# Altium schematic symbol library hand_ad_lib.SchLib: 101 symbols (part 1 of 2)
Pins are listed as number, name and electrical type; pins without a type are passive.

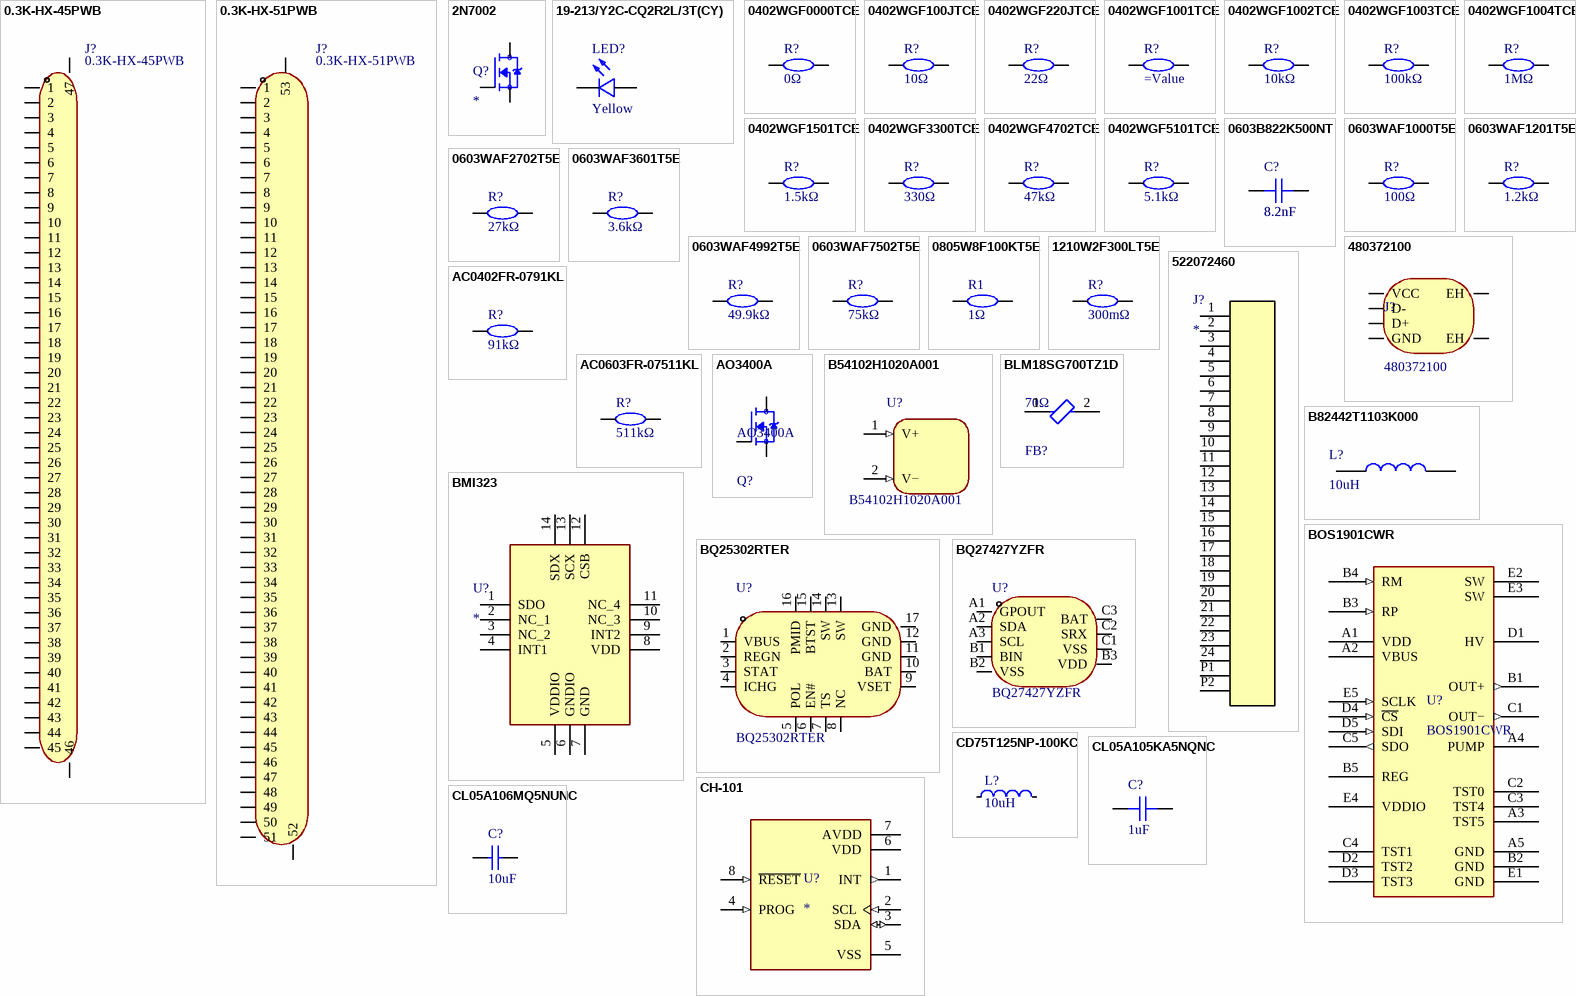
[diagram p0: symbols 0.3K-HX-45PWB to CL05A106MQ5NUNC]

## 0.3K-HX-45PWB
designator J?
FPC Connector, 45P, 0.3mm, Right Angle, TOP Connection; Manufacturer: HDGC(华德共创); Add into BOM: yes; Locking Feature: 翻盖式; FFC, FCB Thickness: 0.2mm; Symbol: 0.3K-HX-45PWB; Device: 0.3K-HX-45PWB; LCSC Part Name: 间距:0.3mm P数:45P 翻盖式 上接; Supplier Part: C2919534; Manufacturer Part: 0.3K-HX-45PWB; Supplier Footprint: SMD,P=0.3mm,卧贴; JLCPCB Part Class: 扩展库; Datasheet: https://atta.szlcsc.com/upload/public/pdf/source/20211115/5A3AC448CFC4AFE5F6E30419C274B007.pdf; Supplier: LCSC; Convert to PCB: yes; Contact Type: 上接; Number of Contacts: 45P; Pitch: 0.3mm; Mounting Type: 卧贴; Height Above Board: 1mm; Operating Temperature Range: -55℃~+85℃; Name: 0.3K-HX-45PWB
footprint FPC-SMD_45P-P0.30_HDGC_.3K-HX-45PWB
pins: 1, 2, 3, 4, 5, 6, 7, 8, 9, 10, 11, 12, 13, 14, 15, 16, 17, 18, 19, 20, 21, 22, 23, 24, 25, 26, 27, 28, 29, 30, 31, 32, 33, 34, 35, 36, 37, 38, 39, 40, 41, 42, 43, 44, 45, 46, 47

## 0.3K-HX-51PWB
designator J?
FPC Connector, 51P, 0.3mm, Right Angle, TOP Connection; Manufacturer: HDGC(华德共创); Add into BOM: yes; Locking Feature: 翻盖式; FFC, FCB Thickness: 0.2mm; Symbol: 0.3K-HX-51PWB; Device: 0.3K-HX-51PWB; Supplier: LCSC; Supplier Part: C2919535; Manufacturer Part: 0.3K-HX-51PWB; JLCPCB Part Class: 扩展库; LCSC Part Name: 间距:0.3mm P数:51P 翻盖式 上接; Supplier Footprint: SMD,P=0.3mm,卧贴; Datasheet: https://atta.szlcsc.com/upload/public/pdf/source/20211115/5A3AC448CFC4AFE5F6E30419C274B007.pdf; Convert to PCB: yes; Contact Type: 上接; Number of Contacts: 51P; Pitch: 0.3mm; Mounting Type: 卧贴; Height Above Board: 1mm; Operating Temperature Range: -55℃~+85℃; Name: 0.3K-HX-51PWB
footprint FPC-SMD_51P-P0.30_HDGC_0.3K-HX-51PWB
pins: 1, 2, 3, 4, 5, 6, 7, 8, 9, 10, 11, 12, 13, 14, 15, 16, 17, 18, 19, 20, 21, 22, 23, 24, 25, 26, 27, 28, 29, 30, 31, 32, 33, 34, 35, 36, 37, 38, 39, 40, 41, 42, 43, 44, 45, 46, 47, 48, 49, 50, 51, 52, 53

## 2N7002
designator Q?
MOSFET N-CH 60V 280mA (Ta) 350mW (Ta) Surface Mount SOT-23-3 (TO-236); MP: altium_native_batch; Package: None; Price: None; Availability: Unavailable; Value: *
footprint SOT95P240X111-3N
pins: 1 G, 2 S, 3 D

## 19-213/Y2C-CQ2R2L/3T(CY)
designator LED?  Name: Yellow  (hidden comment: 19-213/Y2C-CQ2R2L/3T(CY))
LED, Yellow 0603; Manufacturer: EVERLIGHT(亿光); Add into BOM: yes; Emitted Color: 黄灯; Lens Color: 无色透明; Dominant Wavelength: 585.5nm~591.5nm; Peak Wavelength: 591nm; Forward Current: 20mA; Power Dissipation: 60mW; Viewing Angle: 120°; Symbol: 19-213/Y2C-CQ2R2L/3T(CY); Manufacturer Part: 19-213/Y2C-CQ2R2L/3T(CY); Supplier Footprint: 0603; JLCPCB Part Class: 基础库; Datasheet: https://atta.szlcsc.com/upload/public/pdf/source/20160507/1462613613586.pdf; Supplier: LCSC; Convert to PCB: yes; Diode Configuration: -; Color Temperature: -; Mounting Sytle: -; Operating Temperature: -40℃~+85℃; Supplier Part: C72038; Device: 19-213/Y2C-CQ2R2L/3T(CY); LCSC Part Name: 黄灯; Value: *; Info: Yellow
footprint LED0603-RD-YELLOW
pins: 1 C, 2 A

## 0402WGF0000TCE
designator R?, comment 0Ω
Resistor, Res Thick Film 0402 0 Ohm 1% 0.063W(1/16W) ±800ppm/°C Pad SMD T/R; Manufacturer: UNI-ROYAL(厚声); Symbol: 0402WGF0000TCE; Add into BOM: yes; Power(Watts): 62.5mW; Overload Voltage (Max): 50V; Temperature Coefficient: ±800ppm/℃; Device: 0402WGF0000TCE; Supplier: LCSC; Manufacturer Part: 0402WGF0000TCE; Supplier Part: C17168; Value: 0Ω; JLCPCB Part Class: 基础库; LCSC Part Name: 0Ω ±1% 62.5mW 厚膜电阻; Supplier Footprint: 0402; Datasheet: https://atta.szlcsc.com/upload/public/pdf/source/20200306/C422600_1E6D84923E4A46A82E41ADD87F860B5C.pdf; Convert to PCB: yes; Type: 厚膜电阻; Tolerance: ±1%; Operating Temperature Range: -55℃~+155℃; Name: 0Ω
footprint R0402
pins: 1, 2

## 0402WGF100JTCE
designator R?, comment 10Ω
Resistor, Res Thick Film 0402 10 Ohm 1% 0.063W(1/16W) ±200ppm/°C Pad SMD T/R; Manufacturer: UNI-ROYAL(厚声); Symbol: 0402WGF100JTCE; Add into BOM: yes; Power(Watts): 62.5mW; Overload Voltage (Max): 50V; Temperature Coefficient: ±200ppm/℃; Device: 0402WGF100JTCE; Supplier: LCSC; Manufacturer Part: 0402WGF100JTCE; Supplier Part: C25077; Value: 10Ω; JLCPCB Part Class: 基础库; LCSC Part Name: 10Ω ±1% 62.5mW 厚膜电阻; Supplier Footprint: 0402; Datasheet: https://atta.szlcsc.com/upload/public/pdf/source/20200306/C422600_1E6D84923E4A46A82E41ADD87F860B5C.pdf; Convert to PCB: yes; Type: 厚膜电阻; Tolerance: ±1%; Operating Temperature Range: -55℃~+155℃; Name: 10Ω
footprint R0402
pins: 1, 2

## 0402WGF220JTCE
designator R?, comment 22Ω
Resistor, Res Thick Film 0402 22 Ohm 1% 0.063W(1/16W) ±200ppm/°C Pad SMD T/R; Manufacturer: UNI-ROYAL(厚声); Symbol: 0402WGF220JTCE; Add into BOM: yes; Power(Watts): 62.5mW; Overload Voltage (Max): 50V; Temperature Coefficient: ±100ppm/℃; Device: 0402WGF220JTCE; Supplier: LCSC; Manufacturer Part: 0402WGF220JTCE; Supplier Part: C25092; Value: 22Ω; JLCPCB Part Class: Basic Part; LCSC Part Name: 22Ω ±1% 62.5mW 厚膜电阻; Supplier Footprint: 0402; Datasheet: https://atta.szlcsc.com/upload/public/pdf/source/20200306/C422600_1E6D84923E4A46A82E41ADD87F860B5C.pdf; Convert to PCB: yes; Type: 厚膜电阻; Tolerance: ±1%; Operating Temperature Range: -55℃~+155℃; Name: 22Ω
footprint R0402
pins: 1, 2

## 0402WGF1001TCE
designator R?
Resistor, Res Thick Film 0402 1K Ohm 1% 0.063W(1/16W) ±100ppm/°C Pad SMD T/R; Manufacturer: UNI-ROYAL(厚声); Symbol: 0402WGF1001TCE; Add into BOM: yes; Power(Watts): 62.5mW; Overload Voltage (Max): 50V; Temperature Coefficient: ±100ppm/℃; Value: 1kΩ; Device: 0402WGF1001TCE; Supplier: LCSC; Manufacturer Part: 0402WGF1001TCE; Supplier Part: C11702; JLCPCB Part Class: 基础库; LCSC Part Name: 1kΩ ±1% 62.5mW 厚膜电阻; Supplier Footprint: 0402; Datasheet: https://atta.szlcsc.com/upload/public/pdf/source/20200306/C422600_1E6D84923E4A46A82E41ADD87F860B5C.pdf; Convert to PCB: yes; Type: 厚膜电阻; Tolerance: ±1%; Operating Temperature Range: -55℃~+155℃; Resistance: 1kΩ; Name: =Value
footprint R0402
pins: 1, 2

## 0402WGF1002TCE
designator R?, comment 10kΩ
Resistor, Res Thick Film 0402 10K Ohm 1% 0.063W(1/16W) ±100ppm/°C Pad SMD T/R; Manufacturer: UNI-ROYAL(厚声); Symbol: 0402WGF1002TCE; Add into BOM: yes; Power(Watts): 62.5mW; Overload Voltage (Max): 50V; Temperature Coefficient: ±100ppm/℃; Device: 0402WGF1002TCE; Supplier: LCSC; Manufacturer Part: 0402WGF1002TCE; Supplier Part: C25744; Value: 10kΩ; JLCPCB Part Class: 基础库; LCSC Part Name: 10kΩ ±1% 62.5mW 厚膜电阻; Supplier Footprint: 0402; Datasheet: https://atta.szlcsc.com/upload/public/pdf/source/20200306/C422600_1E6D84923E4A46A82E41ADD87F860B5C.pdf; Convert to PCB: yes; Type: 厚膜电阻; Tolerance: ±1%; Operating Temperature Range: -55℃~+155℃; Name: 10kΩ
footprint R0402
pins: 1, 2

## 0402WGF1003TCE
designator R?, comment 100kΩ
Resistor, Res Thick Film 0402 100K Ohm 1% 0.063W(1/16W) ±100ppm/°C Pad SMD T/R; Manufacturer: UNI-ROYAL(厚声); Symbol: 0402WGF1003TCE; Add into BOM: yes; Power(Watts): 62.5mW; Overload Voltage (Max): 50V; Temperature Coefficient: ±100ppm/℃; Device: 0402WGF1003TCE; Supplier: LCSC; Manufacturer Part: 0402WGF1003TCE; Supplier Part: C25741; Value: 100kΩ; JLCPCB Part Class: Basic Part; LCSC Part Name: 100kΩ ±1% 62.5mW 厚膜电阻; Supplier Footprint: 0402; Datasheet: https://atta.szlcsc.com/upload/public/pdf/source/20200306/C422600_1E6D84923E4A46A82E41ADD87F860B5C.pdf; Convert to PCB: yes; Type: 厚膜电阻; Tolerance: ±1%; Operating Temperature Range: -55℃~+155℃; Name: 100kΩ
footprint R0402
pins: 1, 2

## 0402WGF1004TCE
designator R?, comment 1MΩ
Resistor, Res Thick Film 0402 1M Ohm 1% 0.063W(1/16W) ±100ppm/°C Pad SMD T/R; Manufacturer: UNI-ROYAL(厚声); Symbol: 0402WGF1004TCE; Add into BOM: yes; Power(Watts): 62.5mW; Overload Voltage (Max): 50V; Temperature Coefficient: ±100ppm/℃; Device: 0402WGF1004TCE; Supplier: LCSC; Manufacturer Part: 0402WGF1004TCE; Supplier Part: C26083; Value: 1MΩ; JLCPCB Part Class: 基础库; LCSC Part Name: 1MΩ ±1% 62.5mW 厚膜电阻; Supplier Footprint: 0402; Datasheet: https://atta.szlcsc.com/upload/public/pdf/source/20200306/C422600_1E6D84923E4A46A82E41ADD87F860B5C.pdf; Convert to PCB: yes; Type: Res Thick Film; Tolerance: ±1%; Operating Temperature Range: -55℃~+155℃; Name: 1MΩ
footprint R0402
pins: 1, 2

## 0402WGF1501TCE
designator R?, comment 1.5kΩ
Resistor, Res Thick Film 0402 1.5K Ohm 1% 0.063W(1/16W) ±100ppm/°C Pad SMD T/R; Manufacturer: UNI-ROYAL(厚声); Symbol: 0402WGF1501TCE; Add into BOM: yes; Power(Watts): 62.5mW; Overload Voltage (Max): 50V; Temperature Coefficient: ±100ppm/℃; Device: 0402WGF1501TCE; Supplier: LCSC; Manufacturer Part: 0402WGF1501TCE; Supplier Part: C25867; Value: 1.5kΩ; JLCPCB Part Class: 基础库; LCSC Part Name: 1.5kΩ ±1% 62.5mW 厚膜电阻; Supplier Footprint: 0402; Datasheet: https://atta.szlcsc.com/upload/public/pdf/source/20200306/C422600_1E6D84923E4A46A82E41ADD87F860B5C.pdf; Convert to PCB: yes; Type: 厚膜电阻; Tolerance: ±1%; Operating Temperature Range: -55℃~+155℃; Name: 1.5kΩ
footprint R0402
pins: 1, 2

## 0402WGF3300TCE
designator R?, comment 330Ω
Resistor, Res Thick Film 0402 330 Ohm 1% 0.063W(1/16W) ±100ppm/°C Pad SMD T/R; Manufacturer: UNI-ROYAL(厚声); Symbol: 0402WGF3300TCE; Add into BOM: yes; Power(Watts): 62.5mW; Overload Voltage (Max): 50V; Temperature Coefficient: ±100ppm/℃; Device: 0402WGF3300TCE; Supplier: LCSC; Manufacturer Part: 0402WGF3300TCE; Supplier Part: C25104; Value: 330Ω; JLCPCB Part Class: Basic Part; LCSC Part Name: 330Ω ±1% 62.5mW 厚膜电阻; Supplier Footprint: 0402; Datasheet: https://atta.szlcsc.com/upload/public/pdf/source/20200306/C422600_1E6D84923E4A46A82E41ADD87F860B5C.pdf; Convert to PCB: yes; Type: 厚膜电阻; Tolerance: ±1%; Operating Temperature Range: -55℃~+155℃; Name: 330Ω
footprint R0402
pins: 1, 2

## 0402WGF4702TCE
designator R?, comment 47kΩ
Resistor, Res Thick Film 0402 47K Ohm 1% 0.063W(1/16W) ±100ppm/°C Pad SMD T/R; Manufacturer: UNI-ROYAL(厚声); Symbol: 0402WGF4702TCE; Add into BOM: yes; Power(Watts): 62.5mW; Overload Voltage (Max): 50V; Temperature Coefficient: ±100ppm/℃; Device: 0402WGF4702TCE; Supplier: LCSC; Manufacturer Part: 0402WGF4702TCE; Supplier Part: C25792; Value: 47kΩ; JLCPCB Part Class: 基础库; LCSC Part Name: 47kΩ ±1% 62.5mW 厚膜电阻; Supplier Footprint: 0402; Datasheet: https://atta.szlcsc.com/upload/public/pdf/source/20200306/C422600_1E6D84923E4A46A82E41ADD87F860B5C.pdf; Convert to PCB: yes; Type: 厚膜电阻; Tolerance: ±1%; Operating Temperature Range: -55℃~+155℃; Name: 47kΩ
footprint R0402
pins: 1, 2

## 0402WGF5101TCE
designator R?, comment 5.1kΩ
Resistor, Res Thick Film 0402 5k1 Ohm 1% 0.063W(1/16W) ±100ppm/°C Pad SMD T/R; Manufacturer: UNI-ROYAL(厚声); Symbol: 0402WGF5101TCE; Add into BOM: yes; Power(Watts): 62.5mW; Overload Voltage (Max): 50V; Temperature Coefficient: ±100ppm/℃; Device: 0402WGF5101TCE; Supplier: LCSC; Manufacturer Part: 0402WGF5101TCE; Supplier Part: C25905; Value: 5.1kΩ; JLCPCB Part Class: Basic Part; LCSC Part Name: 5.1kΩ ±1% 62.5mW 厚膜电阻; Supplier Footprint: 0402; Datasheet: https://atta.szlcsc.com/upload/public/pdf/source/20200306/C422600_1E6D84923E4A46A82E41ADD87F860B5C.pdf; Convert to PCB: yes; Tolerance: ±1%; Type: 厚膜电阻; Operating Temperature Range: -55℃~+155℃; Name: 5.1kΩ
footprint R0402
pins: 1, 2

## 0603B822K500NT
designator C?, comment 8.2nF
MLCC, 8.2 nF, 50 V, ± 10%, X7R, 0603; Manufacturer: FH(风华); Symbol: 0603B822K500NT; Add into BOM: yes; Voltage Rated: 50V; Device: 0603B822K500NT; LCSC Part Name: 8.2nF ±10% 50V; Supplier Part: C1322360; Manufacturer Part: 0603B822K500NT; Supplier Footprint: 0603; JLCPCB Part Class: 基础库; Datasheet: https://atta.szlcsc.com/upload/public/pdf/source/20200305/C486355_26A10D38EF8C2A5C37091D0039909270.pdf; Supplier: LCSC; Convert to PCB: yes; Value: 8.2nF; Tolerance: ±10%; Temperature Coefficient: X7R; Name: 8.2nF
footprint C0603
pins: 1, 2

## 0603WAF1000T5E
designator R?, comment 100Ω
Resistor, Res Thick Film 0603 100 Ohm 1% 0.1W(1/10W) ±200ppm/°C Pad SMD T/R; Manufacturer: UNI-ROYAL(厚声); Symbol: 0603WAF1000T5E; Add into BOM: yes; Power(Watts): 100mW; Overload Voltage (Max): 75V; Temperature Coefficient: ±200ppm/℃; Device: 0603WAF1000T5E; LCSC Part Name: 100Ω ±1% 100mW 厚膜电阻; Supplier Part: C22775; Manufacturer Part: 0603WAF1000T5E; Supplier Footprint: 0603; JLCPCB Part Class: 基础库; Datasheet: https://atta.szlcsc.com/upload/public/pdf/source/20200306/C422600_1E6D84923E4A46A82E41ADD87F860B5C.pdf; Supplier: LCSC; Convert to PCB: yes; Type: 厚膜电阻; Value: 100Ω; Tolerance: ±1%; Operating Temperature Range: -55℃~+155℃; Name: 100Ω
footprint R0603
pins: 1, 2

## 0603WAF1201T5E
designator R?, comment 1.2kΩ
Resistor, Res Thick Film 0603 1.2K Ohm 1% 0.1W ±100ppm/°C Pad SMD T/R; Manufacturer: UNI-ROYAL(厚声); Symbol: 0603WAF1201T5E; Add into BOM: yes; Power(Watts): 100mW; Overload Voltage (Max): 75V; Temperature Coefficient: ±100ppm/℃; Device: 0603WAF1201T5E; Supplier: LCSC; Manufacturer Part: 0603WAF1201T5E; Supplier Part: C22765; Value: 1.2kΩ; JLCPCB Part Class: 基础库; LCSC Part Name: 1.2kΩ ±1% 100mW 厚膜电阻; Supplier Footprint: 0603; Datasheet: https://atta.szlcsc.com/upload/public/pdf/source/20200306/C422600_1E6D84923E4A46A82E41ADD87F860B5C.pdf; Convert to PCB: yes; Type: 厚膜电阻; Tolerance: ±1%; Operating Temperature Range: -55℃~+155℃; Name: 1.2kΩ
footprint R0603
pins: 1, 2

## 0603WAF2702T5E
designator R?, comment 27kΩ
Resistor, Res Thick Film 0603 27K Ohm 1% 0.1W ±100ppm/°C Pad SMD T/R; Manufacturer: UNI-ROYAL(厚声); Symbol: 0603WAF2702T5E; Add into BOM: yes; Power(Watts): 100mW; Overload Voltage (Max): 75V; Temperature Coefficient: ±100ppm/℃; Device: 0603WAF2702T5E; Supplier: LCSC; Manufacturer Part: 0603WAF2702T5E; Supplier Part: C22967; Value: 27kΩ; JLCPCB Part Class: 基础库; LCSC Part Name: 27kΩ ±1% 100mW 厚膜电阻; Supplier Footprint: 0603; Datasheet: https://atta.szlcsc.com/upload/public/pdf/source/20200306/C422600_1E6D84923E4A46A82E41ADD87F860B5C.pdf; Convert to PCB: yes; Type: 厚膜电阻; Tolerance: ±1%; Operating Temperature Range: -55℃~+155℃; Name: 27kΩ
footprint R0603
pins: 1, 2

## 0603WAF3601T5E
designator R?, comment 3.6kΩ
Resistor, Res Thick Film 0603 3.6K Ohm 1% 0.1W ±100ppm/°C Pad SMD T/R; Manufacturer: UNI-ROYAL(厚声); Symbol: 0603WAF3601T5E; Add into BOM: yes; Power(Watts): 100mW; Overload Voltage (Max): 75V; Temperature Coefficient: ±100ppm/℃; Device: 0603WAF3601T5E; Supplier: LCSC; Manufacturer Part: 0603WAF3601T5E; Supplier Part: C22980; Value: 3.6kΩ; JLCPCB Part Class: Basic Part; LCSC Part Name: 3.6kΩ ±1% 100mW 厚膜电阻; Supplier Footprint: 0603; Datasheet: https://atta.szlcsc.com/upload/public/pdf/source/20200306/C422600_1E6D84923E4A46A82E41ADD87F860B5C.pdf; Convert to PCB: yes; Type: 厚膜电阻; Tolerance: ±1%; Operating Temperature Range: -55℃~+155℃; Name: 3.6kΩ
footprint R0603
pins: 1, 2

## 0603WAF4992T5E
designator R?, comment 49.9kΩ
Resistor, Res Thick Film 0603 49.9k Ohm 1% 0.1W(1/10W) ±100ppm/°C Pad SMD T/R; Manufacturer: UNI-ROYAL(厚声); Symbol: 0603WAF4992T5E; Add into BOM: yes; Power(Watts): 100mW; Overload Voltage (Max): 75V; Temperature Coefficient: ±100ppm/℃; Device: 0603WAF4992T5E; Supplier: LCSC; Manufacturer Part: 0603WAF4992T5E; Supplier Part: C23184; Value: 49.9kΩ; JLCPCB Part Class: Basic Part; LCSC Part Name: 49.9kΩ ±1% 100mW 厚膜电阻; Supplier Footprint: 0603; Datasheet: https://atta.szlcsc.com/upload/public/pdf/source/20200306/C422600_1E6D84923E4A46A82E41ADD87F860B5C.pdf; Convert to PCB: yes; Type: 厚膜电阻; Tolerance: ±1%; Operating Temperature Range: -55℃~+155℃; Name: 49.9kΩ
footprint R0603
pins: 1, 2

## 0603WAF7502T5E
designator R?, comment 75kΩ
Resistor, Res Thick Film 0603 75k Ohm 1% 0.1W(1/10W) ±100ppm/°C Pad SMD T/R; Manufacturer: UNI-ROYAL(厚声); Symbol: 0603WAF7502T5E; Add into BOM: yes; Power(Watts): 100mW; Overload Voltage (Max): 75V; Temperature Coefficient: ±100ppm/℃; Device: 0603WAF7502T5E; Supplier: LCSC; Manufacturer Part: 0603WAF7502T5E; Supplier Part: C23242; Value: 75kΩ; JLCPCB Part Class: Basic Part; LCSC Part Name: 75kΩ ±1% 100mW 厚膜电阻; Supplier Footprint: 0603; Datasheet: https://atta.szlcsc.com/upload/public/pdf/source/20200306/C422600_1E6D84923E4A46A82E41ADD87F860B5C.pdf; Convert to PCB: yes; Type: 厚膜电阻; Tolerance: ±1%; Operating Temperature Range: -55℃~+155℃; Name: 75kΩ
footprint R0603
pins: 1, 2

## 0805W8F100KT5E
designator R1, comment 1Ω
Resistor, Thick Film 0805 1 Ohm 1% 0.125W(1/8W) ±400ppm/°C Pad SMD T/R, working temperature range -55°C ~ +155°C, maximum operating voltage 150V.; Manufacturer: UNI-ROYAL(厚声); Symbol: 0805W8F100KT5E; Add into BOM: yes; Power(Watts): 125mW; Overload Voltage (Max): 150V; Temperature Coefficient: ±400ppm/℃; Device: 0805W8F100KT5E; Supplier: LCSC; Manufacturer Part: 0805W8F100KT5E; Supplier Part: C25271; Value: 1Ω; JLCPCB Part Class: 基础库; LCSC Part Name: 1Ω ±1% 125mW 厚膜电阻; Supplier Footprint: 0805; Datasheet: https://atta.szlcsc.com/upload/public/pdf/source/20200306/C422600_1E6D84923E4A46A82E41ADD87F860B5C.pdf; Convert to PCB: yes; Type: 厚膜电阻; Tolerance: ±1%; Operating Temperature Range: -55℃~+155℃; Name: 1Ω
footprint R0805
pins: 1, 2

## 1210W2F300LT5E
designator R?, comment 300mΩ
Thermal dissipation resistor, 0.5 W, 300 mOhm, 1210; Manufacturer: UNI-ROYAL(厚声); Symbol: 1210W2F300LT5E; Add into BOM: yes; Tolerance: ±1%; Power(Watts): 500mW; Overload Voltage (Max): 200V; Device: 1210W2F300LT5E; Supplier: LCSC; Supplier Part: C620647; Manufacturer Part: 1210W2F300LT5E; Value: 300mΩ; JLCPCB Part Class: 扩展库; LCSC Part Name: 300mΩ ±1% 500mW 厚膜电阻; Supplier Footprint: 1210; Datasheet: https://atta.szlcsc.com/upload/public/pdf/source/20200306/C422600_1E6D84923E4A46A82E41ADD87F860B5C.pdf; Convert to PCB: yes; Type: 厚膜电阻; Operating Temperature Range: -55℃~+155℃; Name: 300mΩ
footprint R1210
pins: 1, 2

## 480372100
designator J?
USB Connector, 4 Contact(s), Male, Right Angle, Surface Mount Terminal, Locking, Receptacle; Manufacturer: MOLEX; Symbol: 48037-2100; Add into BOM: yes; Connector Type: Type-A; Gender: 公; Number of Ports: 1; Number of Contacts: 4P; Device: 480372100; LCSC Part Name: Type-A 公; Supplier Part: C136453; Manufacturer Part: 480372100; Supplier Footprint: SMD; JLCPCB Part Class: 扩展库; Datasheet: https://atta.szlcsc.com/upload/public/pdf/source/20171113/C136453_15105610937411115478.pdf; Supplier: LCSC; Convert to PCB: yes; Standard: USB 2.0; Name: 480372100
footprint USB-A-TH_480372100
pins: 1 VCC, 2 D-, 3 D+, 4 GND, 5 EH, 6 EH

## 522072460
designator J?
FFC 1mm 24P; Mfr_Name: Molex Connector Corporation; RefDes: RefDes; Type: Type
footprint CON_522072460_MOL
pins: 1, 2, 3, 4, 5, 6, 7, 8, 9, 10, 11, 12, 13, 14, 15, 16, 17, 18, 19, 20, 21, 22, 23, 24, P1, P2

## AC0402FR-0791KL
designator R?, comment 91kΩ
SMD Chip Resistor, 91 kOhm, ± 1%, 63 mW, 0402 [1005 Metric], Thick Film, General Purpose; Manufacturer: YAGEO(国巨); Symbol: AC0402FR-0791KL; Add into BOM: yes; Power(Watts): 62.5mW; Overload Voltage (Max): 50V; Temperature Coefficient: ±100ppm/℃; Device: AC0402FR-0791KL; LCSC Part Name: 厚膜电阻 91kΩ ±1% 62.5mW; Supplier Part: C144733; Manufacturer Part: AC0402FR-0791KL; Supplier Footprint: 0402; JLCPCB Part Class: Extended Part; Datasheet: https://atta.szlcsc.com/upload/public/pdf/source/20180927/C229861_4ABDC471507C1ED6AFB4BA66AFC8620A.pdf; Supplier: LCSC; Convert to PCB: yes; Type: 厚膜电阻; Value: 91kΩ; Tolerance: ±1%; Operating Temperature Range: -55℃~+155℃; Name: 91kΩ
footprint R0402
pins: 1, 2

## AC0603FR-07511KL
designator R?, comment 511kΩ
SMD Chip Resistor, 511 kOhm, ± 1%, 100 mW, 0603 [1608 Metric], Thick Film, General Purpose; Manufacturer: YAGEO(国巨); Symbol: AC0603FR-07511KL; Add into BOM: yes; Power(Watts): 100mW; Overload Voltage (Max): 75V; Temperature Coefficient: ±100ppm/℃; Device: AC0603FR-07511KL; LCSC Part Name: 厚膜电阻 511kΩ ±1% 100mW; Supplier Part: C227946; Manufacturer Part: AC0603FR-07511KL; Supplier Footprint: 0603; JLCPCB Part Class: Extended Part; Datasheet: https://atta.szlcsc.com/upload/public/pdf/source/20180927/C229861_4ABDC471507C1ED6AFB4BA66AFC8620A.pdf; Supplier: LCSC; Convert to PCB: yes; Type: 厚膜电阻; Value: 511kΩ; Tolerance: ±1%; Operating Temperature Range: -55℃~+155℃; Name: 511kΩ
footprint R0603
pins: 1, 2

## AO3400A
designator Q?
MOSFET N-CH 30V 5.7A SOT23, C20917, Vth from 0.65 - 1.45 V; Input Capacitance: 630pF; Number of Elements: 1; Rds On Max: 26.5mR; Max Power Dissipation: 1.4W; Gate to Source Voltage (Vgs): 12V; Min Operating Temperature: -55°C; Lead Free: Lead Free; Number of Pins: 3; Drain to Source Voltage (Vdss): 30V; Case/Package: SOT-23; Mount: Surface Mount; Continuous Drain Current (ID): 5.7A; Radiation Hardening: No; Packaging: Tape and Reel; Max Operating Temperature: 150°C; Power Dissipation: 1.4W
footprint FP-SOT23-IPC_A
footprint FP-SOT23-IPC_C
footprint FP-SOT23-MFG
footprint FP-SOT23-IPC_B
pins: 1 G, 2 S, 3 D

## B54102H1020A001
designator U?  Name: B54102H1020A001
TDK PowerHap™, Piezo Haptic Actuator Metal Sealed 15N 65um 32KHz Bulk; Manufacturer: TDK EPCOS; Voltage Rating: 120V; Category: Motors and Drives; Manufacturer Part Number: B54102H1020A001; Max Operating Temperature: 85°C; Min Operating Temperature: -40°C; Series: PowerHap™; Termination: Solder
footprint B54102H1020A001 (The footprint of TDK PowerHap)
pins: 1 V+ (in), 2 V− (in)

## B82442T1103K000
designator L?, comment 10uH
Wirewound Inductor, 10 uH, 132 Milliohm, ± 10%, 19 MHz, 1.42 A, 2220 [5550 Metric]; Manufacturer_Name: TDK; Manufacturer_Part_Number: B82442T1103K000; Datasheet Link: https://product.tdk.com/system/files/dam/doc/product/inductor/inductor/smd/data_sheet/30/db/ind_2008/b82442t.pdf; Height: 5.3mm; Inductance: 10uH
footprint B82442T1103K000 (Footprint not found)
pins: 1, 2

## BLM18SG700TZ1D
designator FB?, comment 70Ω
Chip Ferrite Bead, 0603, 70Ω @ 100MHz, 25%, 0.02Ω, 4A; RoHS Compliant: Yes
footprint FP-BLM18-0_15-t0_5-d1_2-IPC_B
footprint FP-BLM18-0_15-t0_5-d1_2-IPC_C
footprint FP-BLM18-0_15-t0_5-d1_2-IPC_A
footprint FP-BLM18-0_15-t0_5-d1_2-MFG
pins: 1, 2

## BMI323
designator U?
BOSCH IMU IC; Manufacturer_Part_Number: BMI323; Datasheet Link: https://www.bosch-sensortec.com/media/boschsensortec/downloads/datasheets/bst-bmi323-ds000.pdf; Height: 0.87mm; Manufacturer_Name: BOSCH; Mouser Part Number: 262-BMI323; Mouser Price/Stock: https://www.mouser.co.uk/ProductDetail/Bosch-Sensortec/BMI323?qs=By6Nw2ByBD3%2FE1v0UqNQPQ%3D%3D; Arrow Part Number: BMI323; Arrow Price/Stock: https://www.arrow.com/en/products/bmi323/bosch?region=nac
footprint BMI323
pins: 1 SDO, 2 NC_1, 3 NC_2, 4 INT1, 5 VDDIO, 6 GNDIO, 7 GND, 8 VDD, 9 INT2, 10 NC_3, 11 NC_4, 12 CSB, 13 SCX, 14 SDX

## BOS1901CWR
designator U?
The BOS1901 piezo actuator driver, powered by Boréas' CapDrive™ technology, delivers up to 190 Vpk-pk waveforms with minimal power from a 3 to 5.5 V source, featuring a high-speed SPI for efficient multi-actuator integration. It requires only seven passive components for a streamlined BOM, supports a Unidirectional Power Input to enhance system efficiency, and ensures rapid start-up and fault protection for reliable operation.
footprint BOS1901_BGA25C40P5X5_212X224X66 (Footprint not found)
pins: A1 VDD (power) "Intermediate Supply Voltage", A2 VBUS (power) "Main Power Supply", A3 TST5 "Factory Test Pin: Must be kept floating", A4 PUMP (power) "Internal 5 V Charge Pump Voltage", A5 GND (power) "Supply Ground", B1 OUT+ (out) "Positive Differential Output", B2 GND (power) "Supply Ground", B3 RP (in) "Current Sense Positive Input", B4 RM (in) "Current Sense Negative Input", B5 REG (power) "Internal 1.8 V Regulator Output", C1 OUT− (out) "Negative Differential Output", C2 TST0 "Factory Test Pin: Must be kept floating", C3 TST4 "Factory Test Pin: Must be kept floating", C4 TST1 "Factory Test Pin: Must be connected to VDDIO", C5 SDO (out) "SPI serial Data Output", D1 HV (power) "High Voltage Output", D2 TST2 "Factory Test Pin: Must be connected to VDDIO", D3 TST3 "Factory Test Pin: Must be connected to VDDIO", D4 ~{CS} (in) "SPI Chip Select Input (active low)", D5 SDI (in) "SPI Serial Data Input", E1 GND (power) "Supply Ground", E2 SW (power) "Internal Power Converter Switch Pin", E3 SW (power) "Internal Power Converter Switch Pin", E4 VDDIO (power) "Digital IO Power Supply", E5 SCLK (in) "SPI Clock Input"

## BQ25302RTER
designator U?
Standalone single cell 2.0-A buck battery charger 16-WQFN -40 to 85; Manufacturer: TI(德州仪器); Add into BOM: yes; Supply Voltage: 6.2V; Maximum Charge Current: 2A; Type of Battery: 锂离子/聚合物; Number of Cells: 1; Symbol: BQ25302RTER; Device: BQ25302RTER; LCSC Part Name: BQ25302RTER; Supplier Part: C2761617; Manufacturer Part: BQ25302RTER; Supplier Footprint: WQFN-16-EP(3x3); JLCPCB Part Class: 扩展库; Datasheet: https://www.ti.com/cn/lit/gpn/bq25302; Supplier: LCSC; Convert to PCB: yes; Operating Temperature: -40℃~+85℃; Name: BQ25302RTER
footprint WQFN-16_L3.0-W3.0-P0.50-BL-EP1.7
pins: 1 VBUS, 2 REGN, 3 STAT, 4 ICHG, 5 POL, 6 EN#, 7 TS, 8 NC, 9 VSET, 10 BAT, 11 GND, 12 GND, 13 SW, 14 SW, 15 BTST, 16 PMID, 17 GND

## BQ27427YZFR
designator U?
Single-cell battery fuel gauge with pre-programmed chemistry and integrated sense resistor 9-DSBGA -40 to 85; Manufacturer: TI(德州仪器); Add into BOM: yes; Type of Battery: 锂离子/聚合物; Number of Cells: 1; Symbol: BQ27427YZFR; Device: BQ27427YZFR; Supplier: LCSC; Supplier Part: C6075475; Manufacturer Part: BQ27427YZFR; JLCPCB Part Class: 扩展库; LCSC Part Name: BQ27427YZFR; Supplier Footprint: DSBGA-9; Datasheet: https://atta.szlcsc.com/upload/public/pdf/source/20230606/EC4A78E98B698DBC5F6AAC887FB11355.pdf; Convert to PCB: yes; Name: BQ27427YZFR
footprint DSBGA-9_L1.6-W1.6-R3-C3-P0.50-TL
pins: A1 GPOUT, A2 SDA, A3 SCL, B1 BIN, B2 VSS, B3 VDD, C1 VSS, C2 SRX, C3 BAT

## CD75T125NP-100KC
designator L?, comment 10uH
Ind Power Unshielded Wirewound 10uH 10% 2.52MHz 2.3A Carrier T/R; Manufacturer: Sumida(胜美达); Symbol: CD75T125NP-100KC; Add into BOM: yes; Rated Current: 2.8A; DC Resistance (DCR): 70mΩ; Device: CD75T125NP-100KC; Supplier: LCSC; Supplier Part: C171577; Manufacturer Part: CD75T125NP-100KC; Value: 10uH; JLCPCB Part Class: 扩展库; LCSC Part Name: 10uH ±10% 2.8A; Supplier Footprint: SMD,7x7.8mm; Datasheet: https://atta.szlcsc.com/upload/public/pdf/source/20180612/C171578_76546A41B009E6D637AB9F25A289E360.pdf; Convert to PCB: yes; Tolerance: ±10%; Saturation Current (Isat): 2.8A; Ratings: AEC-Q200; Name: 10uH
footprint IND-SMD_L7.8-W7.0-A
pins: 1, 2

## CH-101
designator U?
Ultrasonic MEMS based Time-of-Flight _ToF_ Range Sensor; MP: CH-101; MF: TDK InvenSense; Value: *; Availability: Unavailable; Package: SOT-23-6 TDK InvenSense; SnapEDA_Link: https://www.snapeda.com/parts/CH-101/TDK%20InvenSense/view-part/4477814/?ref=snap; Price: None
footprint XDCR_CH-101
pins: 1 INT (out), 2 SCL (in), 3 SDA (io), 4 PROG (in), 5 VSS (power), 6 VDD (power), 7 AVDD (power), 8 ~{RESET} (in)

## CL05A105KA5NQNC
designator C?, comment 1uF
MLCC, 1 uF, 25 V, ± 10%, X5R, 0402 [1005 Metric]; Manufacturer: SAMSUNG(三星); Symbol: CL05A105KA5NQNC; Add into BOM: yes; Voltage Rated: 25V; Device: CL05A105KA5NQNC; LCSC Part Name: 1uF ±10% 25V; Supplier Part: C52923; Manufacturer Part: CL05A105KA5NQNC; Supplier Footprint: 0402; JLCPCB Part Class: Basic Part; Datasheet: https://atta.szlcsc.com/upload/public/pdf/source/20160218/1457707763339.pdf; Supplier: LCSC; Convert to PCB: yes; Value: 1uF; Tolerance: ±10%; Temperature Coefficient: X5R; Name: 1uF
footprint C0402
pins: 1, 2

## CL05A106MQ5NUNC
designator C?, comment 10uF
Ceramic Cap,  10uF 6.3V X5R 20% SMD 0402 85C T/R; Manufacturer: SAMSUNG(三星); Symbol: CL05A106MQ5NUNC; Add into BOM: yes; Device: CL05A106MQ5NUNC; Supplier: LCSC; Manufacturer Part: CL05A106MQ5NUNC; Value: 10uF; Supplier Part: C15525; JLCPCB Part Class: 基础库; LCSC Part Name: 10uF ±20% 6.3V; Supplier Footprint: 0402; Datasheet: https://atta.szlcsc.com/upload/public/pdf/source/20220823/2B02EE04F8F211D38A52DCB16EB6BEBA.pdf; Convert to PCB: yes; Tolerance: ±20%; Voltage Rated: 6.3V; Temperature Coefficient: X5R; Name: 10uF
footprint C0402
pins: 1, 2

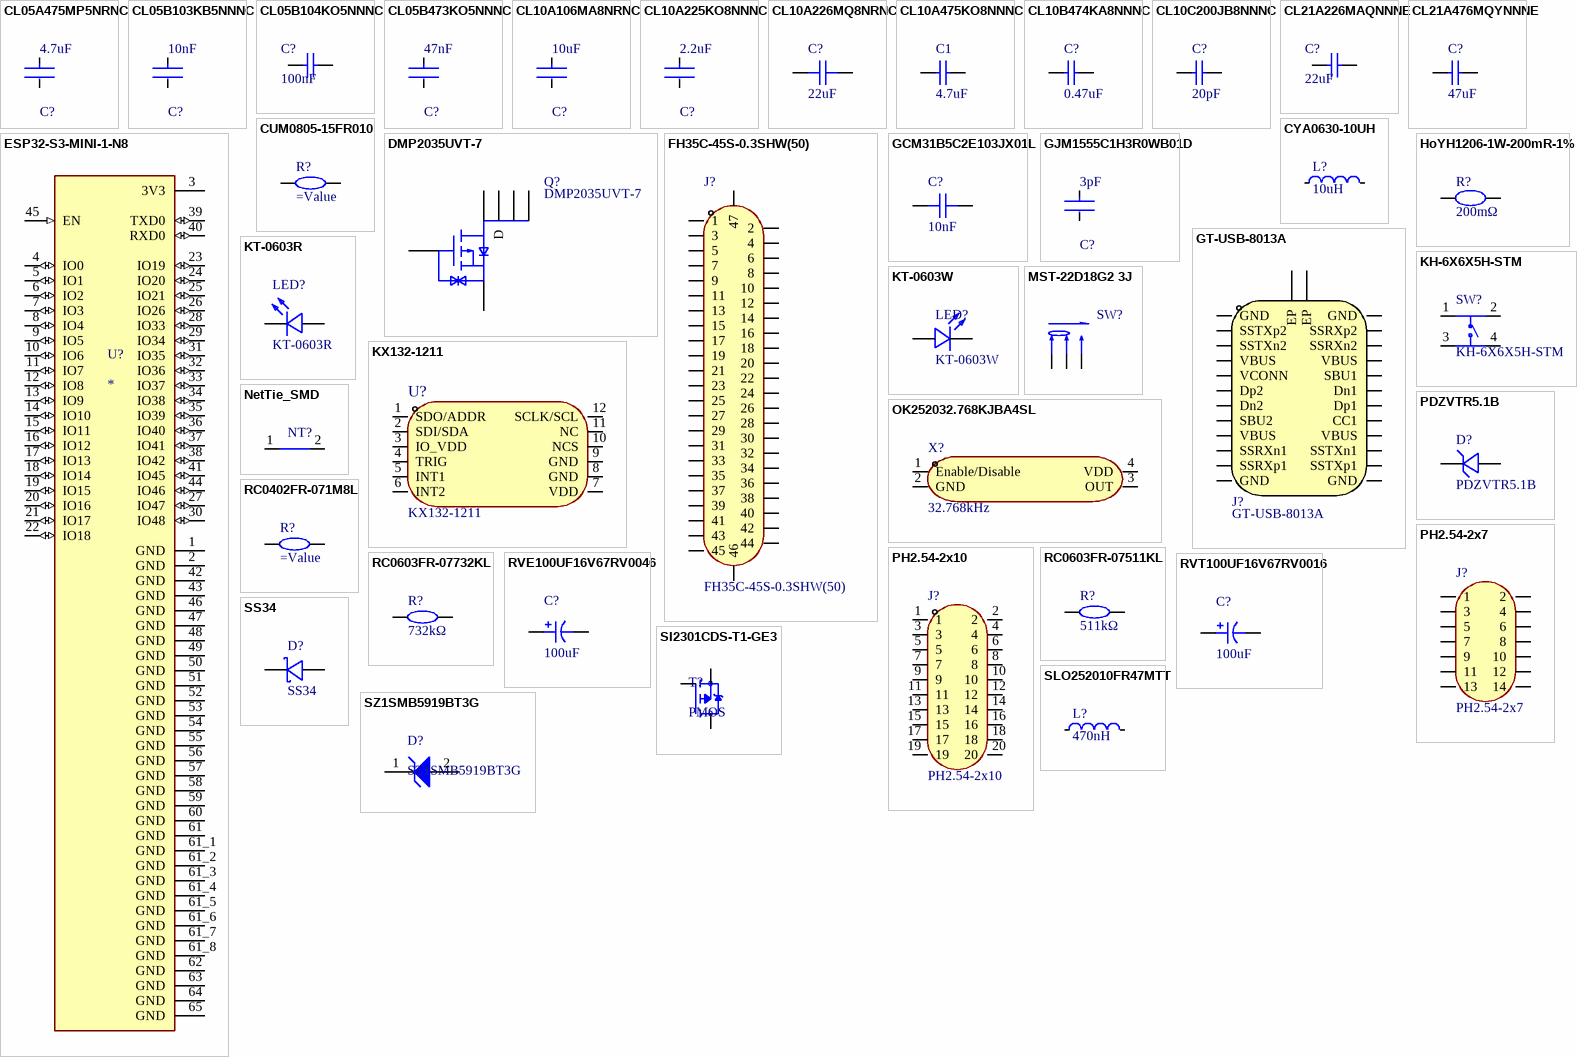
[diagram p1: symbols CL05A475MP5NRNC to SZ1SMB5919BT3G]

## CL05A475MP5NRNC
designator C?, comment 4.7uF
Cap Ceramic 4.7uF 10V X5R ±20% SMD 0402 +85°C Paper T/R; Capacitance: 4.7uF; Max Operating Temperature: 85°C; Lead Free: Lead Free; Tolerance: 20%; Voltage Rating: 10V; Dielectric: X5R; Width: 0.02inch; Length: 0.039inch; Case/Package: 0402; Min Operating Temperature: -55°C; Packaging: Tape and Reel; Thickness: 0.022inch; Case Code (Imperial): 0402; Package Quantity: 10000; Case Code (Metric): 1005; Mount: Surface Mount
footprint FP-CL282-IPC_C
footprint FP-CL282-IPC_A
footprint FP-CL282-IPC_B
pins: 1, 2

## CL05B103KB5NNNC
designator C?, comment 10nF
Cap Ceramic 10nF 50V X7R ±10% SMD 0402 +125°C Paper T/R; Depth: 0.5mm; Length: 1mm; Lead Free: Lead Free; Case Code (Metric): 1005; Width: 0.02inch; Min Operating Temperature: -55°C; Thickness: 0.022inch; Package Quantity: 1; Mount: Surface Mount; Height: 0.5mm; Voltage: 50V; Material: Ceramic; Tolerance: 10%; Case Code (Imperial): 0402; Radiation Hardening: No; Case/Package: 0402; Max Operating Temperature: 125°C; Voltage Rating (DC): 50V; Contact Plating: Tin; Packaging: Tape and Reel; Voltage Rating: 50V; Capacitance: 10nF; Dielectric: X7R
footprint FP-CL165-IPC_B
footprint FP-CL165-IPC_C
footprint FP-CL165-IPC_A
pins: 1, 2

## CL05B104KO5NNNC
designator C?, comment 100nF
Chip Capacitor, 100 nF, +/- 10%, 16 V, -55 to 125 degC, 0402 (1005 Metric), RoHS, Tape and Reel; Manufacturer: Samsung Electro-Mechanics; Capacitance: 100000pF; Dielectric: X7R; Rated Voltage: 16V; Case Size/Dimension: 0402; Tolerance (%): ±10%; Manufacturer URL: http://www.samsungsem.com/global/index.jsp; Datasheet URL: https://datasheet.ciiva.com/29198/458718-da-01-en-vs-kondensator-0402-29198423.pdf; Datasheet Version: Nov-10
footprint CAPC1050X55X23NL05T13 (Chip Capacitor, 2-Leads, Body 1.05x0.55mm, IPC Medium Density)
footprint CAPC1050X55X23ML05T13 (Chip Capacitor, 2-Leads, Body 1.05x0.55mm, IPC Low Density)
footprint CAPC1050X55X23LL05T13 (Chip Capacitor, 2-Leads, Body 1.05x0.55mm, IPC High Density)
pins: 1, 2

## CL05B473KO5NNNC
designator C?, comment 47nF
Cap Ceramic 47nF 16V X7R ±10% SMD 0402 +125°C Paper T/R; Voltage Rating (DC): 16V; Mount: Surface Mount; Max Operating Temperature: 125°C; Radiation Hardening: No; Voltage: 16V; Capacitance: 47nF; Length: 1mm; Package Quantity: 1; Tolerance: 10%; Width: 0.02inch; Case/Package: 0402; Case Code (Metric): 1005; Height: 0.5mm; Packaging: Tape and Reel; Depth: 0.5mm; Lead Free: Lead Free; Min Operating Temperature: -55°C; Case Code (Imperial): 0402; Voltage Rating: 16V; Contact Plating: Tin; Dielectric: X7R; Thickness: 0.022inch
footprint FP-CL579-IPC_A
footprint FP-CL579-IPC_B
footprint FP-CL579-IPC_C
pins: 1, 2

## CL10A106MA8NRNC
designator C?, comment 10uF
Cap Ceramic 10uF 25V X5R ±20% Pad SMD 0603 +85°C T/R; Width: 0.031inch; Voltage Rating: 25V; Length: 0.063inch; Case Code (Metric): 1608; Dielectric: X5R; Termination: Wraparound; Capacitance: 10uF; Lead Free: Lead Free; Mount: Surface Mount; Package Quantity: 1; Case Code (Imperial): 0603; Thickness: 0.035inch; Packaging: Tape and Reel; Contact Plating: Tin; Min Operating Temperature: -55°C; Tolerance: 20%; Max Operating Temperature: 85°C; Case/Package: 0603
footprint FP-CL10-IPC_A
footprint FP-CL10-IPC_C
footprint FP-CL10-IPC_B
pins: 1, 2

## CL10A225KO8NNNC
designator C?, comment 2.2uF
Cap Ceramic 2.2uF 16V X5R ±10% Pad SMD 0603 +85°C T/R; Case Code (Metric): 1608; Height: 0.8mm; Case/Package: 0603; Depth: 0.8mm; Capacitance: 2.2uF; Voltage Rating: 16V; Case Code (Imperial): 0603; Length: 1.6mm; Packaging: Tape and Reel; Material: Ceramic; Lead Free: Lead Free; Max Operating Temperature: 85°C; Contact Plating: Tin; Thickness: 0.035inch; Radiation Hardening: No; Tolerance: 10%; Min Operating Temperature: -55°C; Voltage: 16V; Dielectric: X5R; Mount: Surface Mount; Package Quantity: 4000; Width: 0.031inch; Voltage Rating (DC): 16V
footprint FP-CL10-IPC_A
footprint FP-CL10-IPC_C
footprint FP-CL10-IPC_B
pins: 1, 2

## CL10A226MQ8NRNC
designator C?, comment 22uF
MLCC, 22 uF, 6.3 V, ± 20%, X5R, 0603; Manufacturer: SAMSUNG(三星); Symbol: CL10A226MQ8NRNC; Add into BOM: yes; Voltage Rated: 6.3V; Device: CL10A226MQ8NRNC; LCSC Part Name: 22uF ±20% 6.3V; Supplier Part: C59461; Manufacturer Part: CL10A226MQ8NRNC; Supplier Footprint: 0603; JLCPCB Part Class: 基础库; Datasheet: https://atta.szlcsc.com/upload/public/pdf/source/20160218/1457707763339.pdf; Supplier: LCSC; Convert to PCB: yes; Value: 22uF; Tolerance: ±20%; Temperature Coefficient: X5R; Name: 22uF
footprint C0603
pins: 1, 2

## CL10A475KO8NNNC
designator C1, comment 4.7uF
Multilayer Ceramic Capacitor, 4.7 uF, 16 V, ± 10%, X5R, 0603 [1608 Metric]; Manufacturer: SAMSUNG(三星); Symbol: CL10A475KO8NNNC; Add into BOM: yes; Voltage Rated: 16V; Device: CL10A475KO8NNNC; Supplier: LCSC; Manufacturer Part: CL10A475KO8NNNC; Value: 4.7uF; Supplier Part: C19666; JLCPCB Part Class: Basic Part; LCSC Part Name: 4.7uF ±10% 16V; Supplier Footprint: 0603; Datasheet: https://atta.szlcsc.com/upload/public/pdf/source/20160218/1457707763339.pdf; Convert to PCB: yes; Tolerance: ±10%; Temperature Coefficient: X5R; Name: 4.7uF
footprint C0603
pins: 1, 2

## CL10B474KA8NNNC
designator C?, comment 0.47uF
MLCC, 0.47 uF, 25 V, ± 10%, X7R, 0603 [1608 Metric]; Manufacturer: SAMSUNG(三星); Symbol: CL10B474KA8NNNC; Add into BOM: yes; Voltage Rated: 25V; Device: CL10B474KA8NNNC; Supplier: LCSC; Manufacturer Part: CL10B474KA8NNNC; Value: 0.47uF; Supplier Part: C1623; JLCPCB Part Class: Basic Part; LCSC Part Name: 470nF ±10% 25V; Supplier Footprint: 0603; Datasheet: https://atta.szlcsc.com/upload/public/pdf/source/20160218/1457707763339.pdf; Convert to PCB: yes; Tolerance: ±10%; Temperature Coefficient: X7R; Name: 0.47uF
footprint C0603
pins: 1, 2

## CL10C200JB8NNNC
designator C?, comment 20pF
MLCC, 20pF, 50 V, ± 5%, C0G, 0603 [1608 Metric]; Manufacturer: SAMSUNG(三星); Symbol: CL10C200JB8NNNC; Add into BOM: yes; Voltage Rated: 50V; Device: CL10C200JB8NNNC; LCSC Part Name: 20pF ±5% 50V; Supplier Part: C1648; Manufacturer Part: CL10C200JB8NNNC; Supplier Footprint: 0603; JLCPCB Part Class: Basic Part; Datasheet: https://atta.szlcsc.com/upload/public/pdf/source/20160218/1457707763339.pdf; Supplier: LCSC; Convert to PCB: yes; Value: 20pF; Tolerance: ±5%; Temperature Coefficient: C0G; Name: 20pF
footprint C0603
pins: 1, 2

## CL21A226MAQNNNE
designator C?, comment 22uF
Multi-layer Ceramic Capacitor, 22 uF, -55 to 85 degC, 2-Pin SMD (0805), RoHS, Tape and Reel; Manufacturer: Samsung Electro-Mechanics; Voltage - Rated: 25V; Other Names: 1276-2908-2; Capacitance: 22µF; Featured Product: Multi-LayerCeramicCapacitors; Product Training Modules: HighCapMLCCFamily; Temperature Coefficient: X5R; Tolerance: ±20%; Online Catalog: CLSeries,HighCapacitance; Applications: GeneralPurpose; RoHS Information: MLCCRoHS2Compliance; Height - Seated (Max): -; Lead Style: -; Lead Spacing: -; Datasheet URL: http://datasheet.octopart.com/CL21A226MAQNNNE-Samsung-datasheet-48647558.pdf; Size / Dimension: 0.079"Lx0.049"W(2.00mmx1.25mm); Thickness (Max): 0.055"(1.40mm); Family: CeramicCapacitors; Package Description: 2-Pin Surface Mount Device, Body 2.0 x 1.25 mm; Datasheet Version: 07/2015; Packaging: Tape&Reel(TR); Manufacturer URL: http://www.samsungsem.com/global/index.jsp; Ratings: -; Package / Case: 0805(2012Metric); Standard Package: 2,000; Mounting Type: SurfaceMount,MLCC; Mounting Technology: SurfaceMount; Category: Capacitors; Package Reference: 0805; Series: CL; Features: -; Operating Temperature: -55°C~85°C
footprint CAPC2013X140X45ML15T25 (Chip Capacitor, 2-Leads, Body 2.15x1.4mm, IPC Low Density)
footprint CAPC2013X140X45NL15T25 (Chip Capacitor, 2-Leads, Body 2.00x1.25mm, IPC Medium Density)
footprint CAPC2013X140X45LL15T25 (Chip Capacitor, 2-Leads, Body 2.00x1.25mm, IPC High Density)
pins: 1, 2

## CL21A476MQYNNNE
designator C?, comment 47uF
MLCC, 47 uF, 6.3 V, ± 20%, X5R, 0805 [2012 Metric]; Manufacturer: SAMSUNG(三星); Symbol: CL21A476MQYNNNE; Add into BOM: yes; Voltage Rated: 6.3V; Device: CL21A476MQYNNNE; Supplier: LCSC; Manufacturer Part: CL21A476MQYNNNE; Value: 47uF; Supplier Part: C16780; JLCPCB Part Class: Basic Part; LCSC Part Name: 47uF ±20% 6.3V; Supplier Footprint: 0805; Datasheet: https://atta.szlcsc.com/upload/public/pdf/source/20160218/1457707763339.pdf; Convert to PCB: yes; Tolerance: ±20%; Temperature Coefficient: X5R; Name: 47uF
footprint C0805
pins: 1, 2

## CUM0805-15FR010
designator R?
Current Measurement Resistor, Res Thick Film 0402 10m Ohm 1% 1W ±50ppm/°C Pad SMD T/R; Manufacturer: FORT(致强); Symbol: CUM0805-15FR010; Add into BOM: yes; Overload Voltage (Max): 50V; Temperature Coefficient: ±50ppm/℃; Value: 10mΩ; Device: CUM0805-15FR010; Supplier: LCSC; Manufacturer Part: CUM0805-15FR010; Supplier Part: C5185583; JLCPCB Part Class: 擴展庫; LCSC Part Name: 10mΩ ±1% 1W 電流量測電阻; Supplier Footprint: 0805; Datasheet: https://atta.szlcsc.com/upload/public/pdf/source/20221109/5A5E314088612C51B7C32A9FBBD0AD3B.pdf; Convert to PCB: yes; Type: 電流量測電阻; Tolerance: ±1%; Power(Watts): 1W; Operating Temperature Range: -55℃~+170℃; Resistance: 10mΩ; Name: =Value
footprint CUM0805
pins: 1, 2

## CYA0630-10UH
designator L?, comment 10uH
Inductance: 10uH, Direct Current Resistance (DCR): 71mΩ, Precision: ±20%, Rated Current: 4A.; Manufacturer: SHOU HAN(首韩); Symbol: CYA0630-10UH; Add into BOM: yes; Rated Current: 4A; Device: CYA0630-10UH; Supplier: LCSC; Supplier Part: C5189958; Manufacturer Part: CYA0630-10UH; Value: 10uH; JLCPCB Part Class: 扩展库; LCSC Part Name: 10uH ±20%; Supplier Footprint: SMD,7.2x6.6mm; Datasheet: https://atta.szlcsc.com/upload/public/pdf/source/20221010/B55E8796F05F85A38044F3826C14EFDD.pdf; Convert to PCB: yes; Tolerance: ±20%; DC Resistance (DCR): 71mΩ; Name: 10uH
footprint IND-SMD_L7.2-W6.6_GPSR07X0
pins: 1, 2

## DMP2035UVT-7
designator Q?
P-Channel 20 V 35 mOhm Surface Mount Enhancement Mode Mosfet - TSOT26-6; Manufacturer: DIODES(美台); Add into BOM: yes; Type: 1个P沟道; Drain Source Voltage (Vdss): 20V; Continuous Drain Current (Id): 6A; Power Dissipation (Pd): 1.2W; Drain Source On Resistance (RDS(on)@Vgs,Id): 35mΩ@4.5V,4A; Gate Threshold Voltage (Vgs(th)@Id): 1.5V@250uA; Total Gate Charge (Qg@Vgs): 23.1nC@4.5V; Input Capacitance (Ciss@Vds): 2.4nF@10V; Symbol: DMP2035UVT-7; Device: DMP2035UVT-7; LCSC Part Name: 1个P沟道 耐压:20V 电流:6A; Supplier Part: C260934; Manufacturer Part: DMP2035UVT-7; Supplier Footprint: TSOT-23-6; JLCPCB Part Class: 扩展库; Datasheet: https://atta.szlcsc.com/upload/public/pdf/source/20180725/C260934_EBD02C3987C7A81956B20CBEFFB2DB19.pdf; Supplier: LCSC; Convert to PCB: yes; Operating Temperature: -55℃~+150℃@(Tj); Name: DMP2035UVT-7
footprint SOT-26_L3.0-W1.6-P0.95-LS2.8-BL
pins: 1 D, 2 D, 3 G, 4 S, 5 D, 6 D

## ESP32-S3-MINI-1-N8
designator U?
Bluetooth, WiFi 802.11b/g/n, Bluetooth v5.0 Transceiver Module 2.4GHz PCB Trace Surface Mount; MF: Espressif Systems; MP: ESP32-S3-MINI-1-N8; Package: None; Price: None; Check_prices: https://www.snapeda.com/parts/ESP32-S3-MINI-1-N8/Espressif+Systems/view-part/?ref=eda; Value: *; SnapEDA_Link: https://www.snapeda.com/parts/ESP32-S3-MINI-1-N8/Espressif+Systems/view-part/?ref=snap; Availability: In Stock; Purchase-URL: https://pricing.snapeda.com/search?q=ESP32-S3-MINI-1-N8&ref=eda
footprint XCVR_ESP32-S3-MINI-1-N8
pins: 1 GND (power), 2 GND (power), 3 3V3 (power), 4 IO0 (io), 5 IO1 (io), 6 IO2 (io), 7 IO3 (io), 8 IO4 (io), 9 IO5 (io), 10 IO6 (io), 11 IO7 (io), 12 IO8 (io), 13 IO9 (io), 14 IO10 (io), 15 IO11 (io), 16 IO12 (io), 17 IO13 (io), 18 IO14 (io), 19 IO15 (io), 20 IO16 (io), 21 IO17 (io), 22 IO18 (io), 23 IO19 (io), 24 IO20 (io), 25 IO21 (io), 26 IO26 (io), 27 IO47 (io), 28 IO33 (io), 29 IO34 (io), 30 IO48 (io), 31 IO35 (io), 32 IO36 (io), 33 IO37 (io), 34 IO38 (io), 35 IO39 (io), 36 IO40 (io), 37 IO41 (io), 38 IO42 (io), 39 TXD0 (io), 40 RXD0 (io), 41 IO45 (io), 42 GND (power), 43 GND (power), 44 IO46 (io), 45 EN (in), 46 GND (power), 47 GND (power), 48 GND (power), 49 GND (power), 50 GND (power), 51 GND (power), 52 GND (power), 53 GND (power), 54 GND (power), 55 GND (power), 56 GND (power), 57 GND (power), 58 GND (power), 59 GND (power), 60 GND (power), 61 GND (power), 61_1 GND (power), 61_2 GND (power), 61_3 GND (power), 61_4 GND (power), 61_5 GND (power), 61_6 GND (power), 61_7 GND (power), 61_8 GND (power), 62 GND (power), 63 GND (power), 64 GND (power), 65 GND (power)

## FH35C-45S-0.3SHW(50)
designator J?
FPC Connector, 45P, 0.3mm, Right Angle, Double Side Connection; Manufacturer: HRS(广濑); Add into BOM: yes; Locking Feature: 翻盖式; FFC, FCB Thickness: 0.2mm; Symbol: FH35C-45S-0.3SHW(50); Device: FH35C-45S-0.3SHW(50); Supplier: LCSC; Supplier Part: C424664; Manufacturer Part: FH35C-45S-0.3SHW(50); JLCPCB Part Class: 扩展库; LCSC Part Name: 间距:0.3mm P数:45P 翻盖式 双侧触点/上下接; Supplier Footprint: SMD,P=0.3mm,卧贴; Datasheet: https://atta.szlcsc.com/upload/public/pdf/source/20190903/C424665_6B902B5D9FC6843B4690A059D72505C7.pdf; Convert to PCB: yes; Contact Type: 双侧触点/上下接; Number of Contacts: 45P; Pitch: 0.3mm; Mounting Type: 卧贴; Height Above Board: 0.88mm; Contact Material: 磷青铜; Contact Plating: 金; Operating Temperature Range: -55℃~+85℃; Name: FH35C-45S-0.3SHW(50)
footprint FPC-SMD_FH35C-45S-0.3SHW-50
pins: 1, 2, 3, 4, 5, 6, 7, 8, 9, 10, 11, 12, 13, 14, 15, 16, 17, 18, 19, 20, 21, 22, 23, 24, 25, 26, 27, 28, 29, 30, 31, 32, 33, 34, 35, 36, 37, 38, 39, 40, 41, 42, 43, 44, 45, 46, 47

## GCM31B5C2E103JX01L
designator C?, comment 10nF
Cap Ceramic 0.01uF 250V C0G 5% SMD 1206 125°C Embossed T/R; Manufacturer: muRata(村田); Symbol: GCM31B5C2E103JX01L; Add into BOM: yes; Device: GCM31B5C2E103JX01L; LCSC Part Name: 10nF ±5% 250V; Supplier Part: C1021645; Manufacturer Part: GCM31B5C2E103JX01L; Supplier Footprint: 1206; JLCPCB Part Class: 扩展库; Datasheet: https://atta.szlcsc.com/upload/public/pdf/source/20200305/C490387_23319AE8C154DEB24C505E6C82A8106A.pdf; Supplier: LCSC; Convert to PCB: yes; Value: 10nF; Tolerance: ±5%; Voltage Rated: 250V; Temperature Coefficient: -; Name: 10nF
footprint C1206
pins: 1, 2

## GJM1555C1H3R0WB01D
designator C?, comment 3pF
Multi-Layer Ceramic Capacitor 3pF C0G  ±0.05pF 0402 Paper T/R; Voltage Rating: 50V; Case Code (Imperial): 0402; Capacitance: 3pF; Radiation Hardening: No; Max Operating Temperature: 125°C; Case/Package: 0402; Length: 1mm; Depth: 0.5mm; Min Operating Temperature: -55°C; Mount: Surface Mount; Dielectric: C0G; Thickness: 0.022inch; Width: 0.5mm; Voltage Rating (DC): 50V; Case Code (Metric): 1005; Height: 0.5mm; Packaging: Tape and Reel; Termination: SMD/SMT; Package Quantity: 10000
footprint FP-GJM155-0_05-IPC_C
footprint FP-GJM155-0_05-IPC_A
footprint FP-GJM155-0_05-IPC_B
footprint FP-GJM155-0_05-MFG
pins: 1, 2

## GT-USB-8013A
designator J?
Type-C male connector, surface mount, temperature range from -40°C to +85°C, USB 3.1, high-conductivity copper with gold plating, 24 pins, 5A.; Manufacturer: G-Switch(品赞); Add into BOM: yes; Gender: 公; Number of Ports: 1; Number of Contacts: 24P; Current Rating - Power (Max): 5A; Soldering Temperature(Max): 260℃; Symbol: GT-USB-8013A; Device: GT-USB-8013A; LCSC Part Name: Type-C 公 卧贴; Supplier Part: C2988370; Manufacturer Part: GT-USB-8013A; Supplier Footprint: SMD; JLCPCB Part Class: 扩展库; Datasheet: https://atta.szlcsc.com/upload/public/pdf/source/20220407/E3C1B476B2B15BB34D81D783ADD7185E.pdf; Supplier: LCSC; Convert to PCB: yes; Connector Type: Type-C; Standard: USB 3.1; Mounting Style: 卧贴; Contact Material: 高导铜; Contact Plating: 金; Operating Temperature Range: -40℃~+85℃; Name: GT-USB-8013A
footprint USB-C-SMD_GT-USB-8013A
pins: 2 EP, 3 EP, A1 GND, A2 SSTXp1, A3 SSTXn1, A4 VBUS, A5 CC1, A6 Dp1, A7 Dn1, A8 SBU1, A9 VBUS, A10 SSRXn2, A11 SSRXp2, A12 GND, B1 GND, B2 SSTXp2, B3 SSTXn2, B4 VBUS, B5 VCONN, B6 Dp2, B7 Dn2, B8 SBU2, B9 VBUS, B10 SSRXn1, B11 SSRXp1, B12 GND

## HoYH1206-1W-200mR-1%
designator R?, comment 200mΩ
Resistance: 0.2Ω Power: 1W, Mounting Type: Surface Mount, Resistor Type: Shunt Resistor, Precision: ±1%,.; Manufacturer: Milliohm(毫欧); Symbol: HOYH1206-1W-200MR-1%; Add into BOM: yes; Mounting Sytle: 贴片; Device: HoYH1206-1W-200mR-1%; Supplier: LCSC; Supplier Part: C2932839; Manufacturer Part: HoYH1206-1W-200mR-1%; Value: 200mΩ; JLCPCB Part Class: 扩展库; LCSC Part Name: 200mΩ ±1% 1W; Supplier Footprint: 1206; Datasheet: https://atta.szlcsc.com/upload/public/pdf/source/20211116/A510C0D8A660B2C11D153FDB54B68FB7.pdf; Convert to PCB: yes; Type: 采样电阻; Tolerance: ±1%; Power(Watts): 1W; Name: 200mΩ
footprint R1206
pins: 1, 2

## KH-6X6X5H-STM
designator SW?
Touch Button; Manufacturer: kinghelm(金航标); Add into BOM: yes; Circuit: 单刀单掷; Actuator Style: 圆形按钮; Switch Length: 6mm; Switch Height: 5mm; Strike Gundam: 不带; Contact Current: 50mA; Voltage Rating (DC): 12V; Actuator/Cap Color: 黑色; Pin Style: 鸥翼型; Mechanical Life: 8万次; Symbol: KH-6X6X5H-STM; Device: KH-6X6X5H-STM; Supplier: LCSC; Supplier Part: C2837531; Manufacturer Part: KH-6X6X5H-STM; JLCPCB Part Class: Extended Part; LCSC Part Name: 6*6*5mm 立贴 轻触开关; Supplier Footprint: SMD; Datasheet: https://atta.szlcsc.com/upload/public/pdf/source/20210608/C2837531_45E87AB996CE723B09405FF2EA209C4C.pdf; Convert to PCB: yes; Mounting Style: 立贴; Switch Width: 6mm; Name: KH-6X6X5H-STM
footprint SW-SMD_4P-L6.0-W6.0-P4.50-LS9.0-2
pins: 1, 2, 3, 4

## KT-0603R
designator LED?
LED, Red 0603; Manufacturer: KENTO; Add into BOM: yes; Emitted Color: 红色; Symbol: KT-0603R; Device: KT-0603R; LCSC Part Name: 0603 红灯 高亮; Supplier Part: C2286; Manufacturer Part: KT-0603R; Supplier Footprint: 0603; JLCPCB Part Class: 基础库; Datasheet: https://atta.szlcsc.com/upload/public/pdf/source/20160616/1466072038404.pdf; Supplier: LCSC; Convert to PCB: yes; Power Dissipation: -; Forward Current: -; Dominant Wavelength: -; Peak Wavelength: -; Diode Configuration: -; Lens Color: -; Color Temperature: -; Viewing Angle: -; Mounting Sytle: -; Operating Temperature: -40℃~+85℃; Name: KT-0603R
footprint LED0603-RD
pins: 1 K, 2 A

## KT-0603W
designator LED?
LED, White 0603; Manufacturer: KENTO; Symbol: 0603White light_C2290; Add into BOM: yes; Emitted Color: 白色; Device: KT-0603W; LCSC Part Name: 0603 白灯 高亮; Supplier Part: C2290; Manufacturer Part: KT-0603W; Supplier Footprint: 0603; JLCPCB Part Class: 基础库; Datasheet: https://atta.szlcsc.com/upload/public/pdf/source/20221101/4C23D5C85BA051E44A00B833D0A41468.pdf; Supplier: LCSC; Convert to PCB: yes; Name: KT-0603W
footprint LED0603-R-RD_WHITE
pins: 1 A, 2 K

## KX132-1211
designator U?
KX132 Series 3.6 V ±2g/4g/8g/16g SMT 3 Axis Digital Accelerometer- LGA-12; Manufacturer: ROHM(罗姆); Add into BOM: yes; Symbol: KX132-1211; Device: KX132-1211; Supplier: LCSC; Supplier Part: C2157931; Manufacturer Part: KX132-1211; JLCPCB Part Class: Extended Part; LCSC Part Name: KX132-1211; Supplier Footprint: LGA-12(2x2); Datasheet: https://atta.szlcsc.com/upload/public/pdf/source/20210603/40873EBC715D8EC3E8B8B154E7D59925.pdf; Convert to PCB: yes; Name: KX132-1211
footprint LGA-12_L2.0-W2.0-P0.50-TL
pins: 1 SDO/ADDR, 2 SDI/SDA, 3 IO_VDD, 4 TRIG, 5 INT1, 6 INT2, 7 VDD, 8 GND, 9 GND, 10 NCS, 11 NC, 12 SCLK/SCL

## MST-22D18G2 3J
designator SW?  (value not drawn)
Slide Switch, Surface Mount, Operating Temperature: -30°C to +80°C, Switch Width: 3.6mm, Switch Length: 9.1mm, Switch Color: -, Switch Height: 3.45mm, Pin Style: SMD Tab, Mechanical Life: 10,000 cycles, Actuator Shape: -, Circuit Configuration: Single Pole Double Throw, Rated Voltage (AC): -, Rated Voltage (DC): 12V, Rated Current (AC): -, Rated Current (DC): 50mA.; Manufacturer: SHOU HAN(首韩); Symbol: MST-22D18G2 3J_C2875122; Add into BOM: yes; Circuit: 单刀双掷; Pin Style: SMD接片; Current Rating (DC): 50mA; Mechanical Life: 1万次; Device: MST-22D18G2 3J; Supplier: LCSC; Supplier Part: C2875122; Manufacturer Part: MST-22D18G2 3J; JLCPCB Part Class: 扩展库; LCSC Part Name: 拨动开关 2档3脚立式贴片 柄高2MM 9.1*3.5*2.0mm; Supplier Footprint: SMD; Convert to PCB: yes; Actuator Style: -; Switch Length: 9.1mm; Switch Width: 3.6mm; Switch Height: 3.45mm; Mounting Style: 立贴; Actuator Color: -; Voltage Rating (DC): 12V; Current Rating (AC): -; Voltage Rating (AC): -; Operating Temperature: -30℃~+80℃; Name: MST-22D18G2 3J
footprint SW-SMD_SHOUHAN_MST-22D18G23J_C2875122
pins: 1, 2, 3

## NetTie_SMD
designator NT?, comment NT  (value not drawn)  (net tie, no BOM)
footprint NT (Net Tie SMD)
pins: 1, 2

## OK252032.768KJBA4SL
designator X?, comment 32.768kHz
Active Crystal Oscillator, Supply current: 5mA, Operating temperature: -40°C to +85°C, Operating voltage: 1.8V to 3.3V, Frequency: 32.768kHz, Frequency stability (full temp): ±20ppm; Manufacturer: YXC(扬兴晶振); Symbol: OK252032.768KJBA4SL; Add into BOM: yes; Supply Voltage: 1.8V~3.3V; Device: OK252032.768KJBA4SL; Supplier: LCSC; Supplier Part: C669098; Manufacturer Part: OK252032.768KJBA4SL; Value: 32.768kHz; JLCPCB Part Class: 扩展库; LCSC Part Name: 32.768kHz ±10ppm 1.8V~3.3V YSO120TK; Supplier Footprint: SMD2520-4P; Datasheet: https://atta.szlcsc.com/upload/public/pdf/source/20210329/C669097_715D097E9D19B4E01936AF746F4B6B69.pdf; Convert to PCB: yes; Supply Current (Max): 5mA; Frequency Stability(Full temperature range): ±20ppm; Operating Temperature: -40℃~+85℃; Name: 32.768kHz
footprint OSC-SMD_4P-L2.5-W2.0-BL
pins: 1 Enable/Disable, 2 GND, 3 OUT, 4 VDD

## PDZVTR5.1B
designator D?
Zener Diode Single 5.4V 6% 8Ohm 1000mW 2-Pin PMDT-M T/R; Manufacturer: ROHM(罗姆); Add into BOM: yes; Diode Configuration: 独立式; Zener Voltage (Nom): 5.1V; Reverse Leakage Current (Ir): 20uA@1V; Zener Voltage (Range): 5.1V~5.7V; Power Dissipation: 1W; Zener Impedance (Zzt): 8Ω; Symbol: PDZVTR5.1B; Device: PDZVTR5.1B; LCSC Part Name: PDZVTR5.1B; Supplier Part: C253499; Manufacturer Part: PDZVTR5.1B; Supplier Footprint: SOD-128; JLCPCB Part Class: 扩展库; Datasheet: https://atta.szlcsc.com/upload/public/pdf/source/20180719/C253506_DD030E9EA893706B5CC238BC3447008C.pdf; Supplier: LCSC; Convert to PCB: yes; Tolerance: -; Name: PDZVTR5.1B
footprint SOD-128_L3.7-W2.5-LS4.7-RD
pins: 1 C, 2 A